# Altium schematic symbol library germanium.SchLib: 1 symbol
Pins are listed as number, name and electrical type; pins without a type are passive.

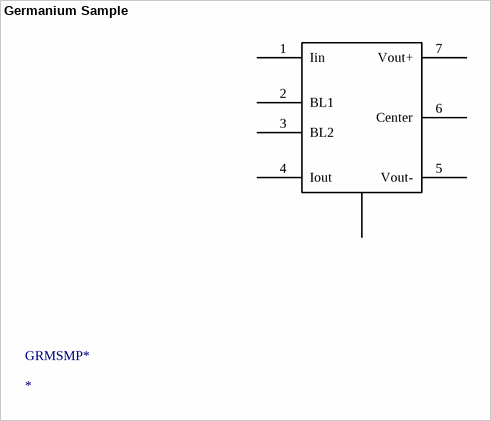
[diagram p0: symbol Germanium Sample]

## Germanium Sample
designator GRMSMP*
Sample germanium
footprint Germanium Sample (Germanium sample footprint)
pins: 0 Vout+, 1 Iin, 2 BL1, 3 BL2, 4 Iout, 5 Vout-, 6 Center, 7 Vout+